# Altium schematic symbol library divisor.SchLib: 1 symbol
Pins are listed as number, name and electrical type; pins without a type are passive.

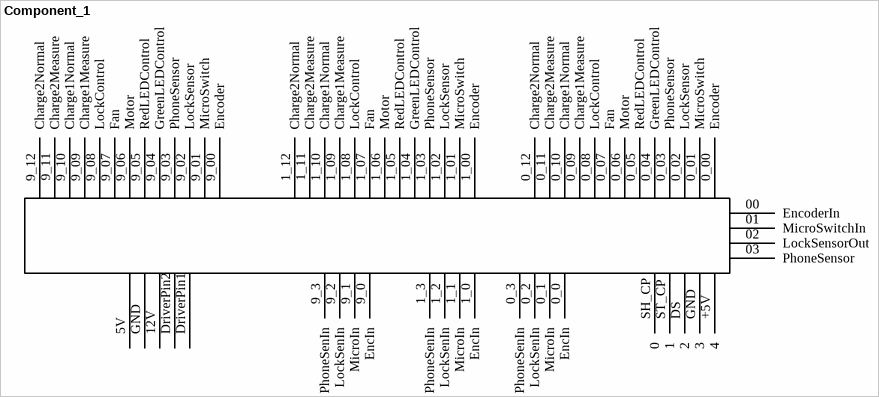
[diagram p0: symbol Component_1]

## Component_1
designator C?
Polypropylene film with epoxy Cap CBB22 105J400V; Manufacturer: CHINA; Designer: Abbas Basereh; Data: 16-12-2016; Link: https://www.alibaba.com/product-detail/CBB22-capacitors-105J-400V-1UF-400V_60020643516.html; Part. No: 105J400V
footprint CBB22 (W23_0_H14_5_T8_0_P19)
pins: 00 EncoderIn, 0_00 Encoder, 0_0 EncIn, 0_01 MicroSwitch, 0_1 MicroIn, 0_02 LockSensor, 0_2 LockSenIn, 0_03 PhoneSensor, 0_3 PhoneSenIn, 0_04 GreenLEDControl, 0_05 RedLEDControl, 0_06 Motor, 0_07 Fan, 0_08 LockControl, 0_09 Charge1Measure, 0_10 Charge1Normal, 0_11 Charge2Measure, 0_12 Charge2Normal, 01 MicroSwitchIn, 1_00 Encoder, 1_0 EncIn, 1_01 MicroSwitch, 1_1 MicroIn, 1_02 LockSensor, 1_2 LockSenIn, 1_03 PhoneSensor, 1_3 PhoneSenIn, 1_04 GreenLEDControl, 1_05 RedLEDControl, 1_06 Motor, 1_07 Fan, 1_08 LockControl, 1_09 Charge1Measure, 1_10 Charge1Normal, 1_11 Charge2Measure, 1_12 Charge2Normal, 02 LockSensorOut, 03 PhoneSensor, 5V, 9_00 Encoder, 9_0 EncIn, 9_01 MicroSwitch, 9_1 MicroIn, 9_02 LockSensor, 9_2 LockSenIn, 9_03 PhoneSensor, 9_3 PhoneSenIn, 9_04 GreenLEDControl, 9_05 RedLEDControl, 9_06 Motor, 9_07 Fan, 9_08 LockControl, 9_09 Charge1Measure, 9_10 Charge1Normal, 9_11 Charge2Measure, 9_12 Charge2Normal, 12V, +5V 4, DriverPin1, DriverPin2, DS 2, GND 3, GND, SH_CP 0, ST_CP 1
1 alternate drawing of the same symbol